# Altium footprint library HM_RETI_Ambilight_v1_0.PcbLib: 12 footprints
Each footprint in its own frame and in the unit in brackets; x right, y up, seen from the top. Pads: shape width x height; smd on the part's side, far side on the other; paste and mask are expansions set on the pad; w line width, h text height; cw(c..) or ccw(c..) is an arc to the next point about the centre after c.
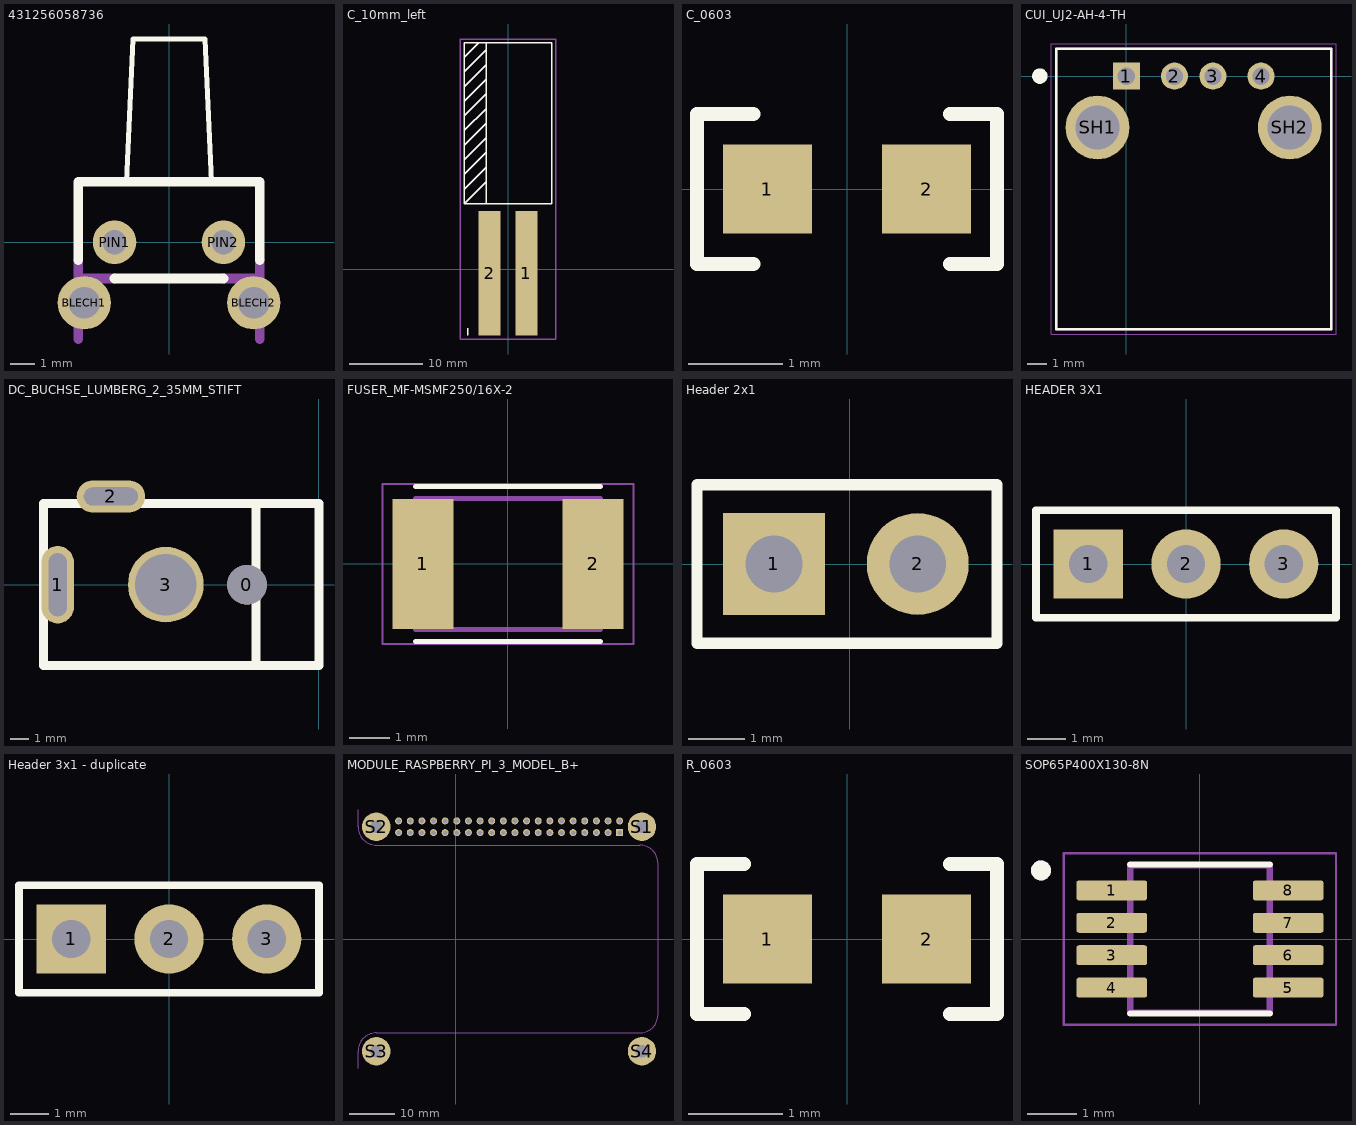
[diagram p0: the footprints below, top view; thin cyan lines are the x and y axes]

## 431256058736 [mm] "Taster 90° 8,35mm"
height 10
pads (4):
  round 2.2 hole 1.3: BLECH1(-3.5,-2.5) BLECH2(3.5,-2.5)
  round 1.8 hole 1: PIN1(-2.25,0) PIN2(2.25,0)
Top Overlay:
  lines w0.2: -1.75,2.5 -1.493,8.4 1.493,8.4 1.75,2.5
  lines w0.4: -3.75,-0.75 -3.75,2.5 3.75,2.5 3.75,-0.75 ; -2.25,-1.5 2.25,-1.5
Mechanical 16:
  lines w0.4: -3.75,-4 -3.75,-0.75 ; -3.75,-1.5 -2.25,-1.5 ; 2.25,-1.5 3.75,-1.5 ; 3.75,-4 3.75,-0.75
3D body: height 7.2, standoff -3.5, extent -4.197,-4 4.202,8.35

## C_10mm_left [mm] "C_10mm, P=5mm"
height 10
pads (2):
  rect 3x17 smd: 1(2.5,-0.5) 2(-2.5,-0.5)
Top Overlay:
  lines w0.2: -6,11 -3,14 ; -6,15 -3,18 ; -6,23 -3,26 ; -6,27 -3,30 ; -5.5,-9 -5.5,-8 ; -4,31 -6,29 ; -3,9 -3,31 ; -3,12 -6,9 ; -3,16 -6,13 ; -3,20 -6,17 ; -3,22 -6,19 ; -3,24 -6,21 ; -3,28 -6,25 ; -6,9 -6,9 ; -6,9 6,9 6,31 -6,31 ; -6,9 -6,31 ; -6,13 -6,13 ; -6,17 -6,17 ; -6,19 -6,19 ; -6,21 -6,21 ; -6,25 -6,25 ; -6,29 -6,29 ; -6,31 -6,31
Mechanical 13:
  lines w0.2: -6.5,-9.5 6.5,-9.5 6.5,31.5 -6.5,31.5 -6.5,-9.5
3D body: height 10.24, standoff 0.24, extent -5,-8.994 5,29.994

## C_0603 [mm] "C_0603"
pads (2):
  rect 0.95x0.95 smd: 1(-0.848,0) 2(0.848,0)
Top Overlay:
  lines w0.15: -1,-0.8 -1.6,-0.8 -1.6,0.8 -1,0.8 ; 1.1,-0.8 1.6,-0.8 1.6,0.8 1.1,0.8
3D body: height 0.79, standoff -0.01, extent -0.8,-0.4 0.8,0.4

## CUI_UJ2-AH-4-TH [mm]
pads (6):
  rect 1.408x1.408 / inner round 1.408 / far side rect 1.408x1.408 hole 0.9: 1(0,0)
  round 1.408 hole 0.9: 2(2.5,0) 3(4.5,0) 4(7,0)
  round 3.316 hole 2.3: SH1(-1.5,-2.67) SH2(8.5,-2.67)
Top Overlay:
  circle w0.4: c-4.5,0 r0.2
  lines w0.127: -3.65,-13.17 -3.65,1.43 10.65,1.43 10.65,-13.17 -3.65,-13.17
Mechanical 13:
  circle w0.4: c0,0 r0.2
  lines w0.127: -3.65,-13.17 -3.65,1.43 10.65,1.43 10.65,-13.17 -3.65,-13.17
Mechanical 15:
  lines w0.05: -3.9,-13.42 -3.9,1.68 10.9,1.68 10.9,-13.42 -3.9,-13.42

## DC_BUCHSE_LUMBERG_2_35MM_STIFT [mm]
pads (4):
  round 2.2 hole 2.2 paste+0 mask+0.05: 0(-4,0)
  oval 1.8x4.3 hole 1 slot 3.5 at 90 deg paste+0 mask+0.05: 1(-14.51,0.01)
  oval 3.8x1.8 hole 1 slot 3 at 0 deg paste+0 mask+0.05: 2(-11.56,4.91)
  round 4.2 hole 3.4 paste+0 mask+0.05: 3(-8.51,0.01)
Top Overlay:
  lines w0.5: -3.51,-4.49 -3.51,4.52 -3.5,4.51 ; 0,4.48 0,0 -0.01,-0.01 -0.01,-4.49 -15.31,-4.49 -15.31,4.51 0,4.51
3D body: height 11.05, standoff -3.66, extent -15.3,-4.52 0.01,5.08

## FUSER_MF-MSMF250/16X-2 [mm]
pads (2):
  rect 1.5x3.2 smd: 1(-2.1,0) 2(2.1,0)
Top Overlay:
  lines w0.127: -2.275,-1.913 2.275,-1.913 ; -2.275,1.913 2.275,1.913
Mechanical 13:
  lines w0.127: -2.275,-1.62 -2.275,1.62 2.275,1.62 2.275,-1.62 -2.275,-1.62
Mechanical 15:
  lines w0.05: -3.1,-1.977 3.1,-1.977 3.1,1.977 -3.1,1.977 -3.1,-1.977
3D body: height 0.85, standoff 0, extent -2.275,-1.62 2.275,1.62

## Header 2x1 [mm] "Header 2x1"
height 4
pads (2):
  rect 1.8x1.8 hole 1: 1(-1.34,0)
  round 1.8 hole 1: 2(1.2,0)
Top Overlay:
  lines w0.2: -2.7,-1.4 -2.7,1.4 2.6,1.4 2.6,-1.4 -2.7,-1.4

## HEADER 3X1 [mm] "Header 3x1"
height 4
pads (3):
  rect 1.8x1.8 hole 1: 1(-2.54,0)
  round 1.8 hole 1: 2(0,0) 3(2.54,0)
Top Overlay:
  lines w0.2: -3.9,-1.4 3.9,-1.4 3.9,1.4 -3.9,1.4 -3.9,-1.4
3D body: height 8.55, standoff -2.99, extent -3.81,-1.264 3.81,1.276

## Header 3x1 - duplicate [mm]
pads (3):
  rect 1.8x1.8 hole 1: 1(-2.54,0)
  round 1.8 hole 1: 2(0,0) 3(2.54,0)
Top Overlay:
  lines w0.2: -3.9,-1.4 -3.9,1.4 3.9,1.4 3.9,-1.4 -3.9,-1.4
3D body: height 8.55, standoff -2.99, extent -3.81,-1.264 3.81,1.276

## MODULE_RASPBERRY_PI_3_MODEL_B+ [mil]
pads (44):
  rect 60x60 hole 40: 1(1409.65,914.57)
  round 60 hole 40: 2(1409.65,1014.57) 3(1309.65,914.57) 4(1309.65,1014.57) 5(1209.65,914.57) 6(1209.65,1014.57) 7(1109.65,914.57) 8(1109.65,1014.57) 9(1009.65,914.57) 10(1009.65,1014.57) 11(909.65,914.57) 12(909.65,1014.57) 13(809.65,914.57) 14(809.65,1014.57) 15(709.65,914.57) 16(709.65,1014.57) 17(609.65,914.57) 18(609.65,1014.57) 19(509.65,914.57) 20(509.65,1014.57) 21(409.65,914.57) 22(409.65,1014.57) 23(309.65,914.57) 24(309.65,1014.57) 25(209.65,914.57) 26(209.65,1014.57) 27(109.65,914.57) 28(109.65,1014.57) 29(9.65,914.57) 30(9.65,1014.57) 31(-90.35,914.57) 32(-90.35,1014.57) 33(-190.35,914.57) 34(-190.35,1014.57) 35(-290.35,914.57) 36(-290.35,1014.57) 37(-390.35,914.57) 38(-390.35,1014.57) 39(-490.35,914.57) 40(-490.35,1014.57)
  round 244.09 hole 108.27: S1(1601.38,964.57) S2(-682.09,964.57) S3(-682.09,-964.57) S4(1601.38,-964.57)
Mechanical 1:
  lines w7.87: -839.57,-1111.02 -839.57,-964.57 cw(c-682.09,-964.57) -682.09,-807.08 1581.69,-807.09 ccw(c1581.69,-649.6) 1739.18,-649.6 1739.18,649.61 ccw(c1581.69,649.61) 1581.69,807.09 -682.09,807.09 cw(c-682.09,964.57) -839.57,964.57 -839.57,1111.02

## R_0603 [mm] "R_0603"
pads (2):
  rect 0.95x0.95 smd: 1(-0.849,0) 2(0.849,0)
Top Overlay:
  lines w0.15: -1.1,-0.8 -1.6,-0.8 -1.6,0.8 -1.1,0.8 ; 1.1,-0.8 1.6,-0.8 1.6,0.8 1.1,0.8
3D body: height 0.45, standoff 0, extent -0.775,-0.425 0.775,0.425

## SOP65P400X130-8N [mm]
pads (8):
  rrect25% 1.42x0.4 smd: 1(-1.77,0.975) 2(-1.77,0.325) 3(-1.77,-0.325) 4(-1.77,-0.975) 5(1.77,-0.975) 6(1.77,-0.325) 7(1.77,0.325) 8(1.77,0.975)
Top Overlay:
  circle w0.2: c-3.19,1.375 r0.1
  lines w0.127: -1.4,-1.495 1.4,-1.495 ; -1.4,1.495 1.4,1.495
Mechanical 13:
  circle w0.2: c-3.19,1.375 r0.1
  lines w0.127: -1.4,-1.475 1.4,-1.475 1.4,1.475 -1.4,1.475 -1.4,-1.475
Mechanical 15:
  lines w0.05: -2.73,-1.725 2.73,-1.725 2.73,1.725 -2.73,1.725 -2.73,-1.725